# Altium schematic symbol library Schlib1.SchLib: 3 symbols
Pins are listed as number, name and electrical type; pins without a type are passive.

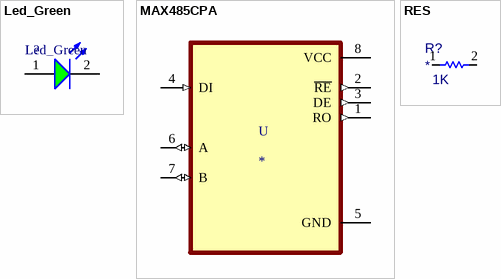
[diagram p0: symbols Led_Green to RES]

## Led_Green
designator L?
NexarPartId: 29717814; Forward Voltage: 2.1V; Viewing Angle: 40°; Lens Size: 5mm; Luminous Intensity: 140mcd; Color: Green; Max Reverse Voltage (DC): 5V; Wavelength: 572nm; Forward Current: 100mA; Peak Wavelength: 573nm; Test Current: 20mA; Lens Style: Circular, Diffused, Round; REACH SVHC: Unknown; Height: 8.6mm; Mount: Through Hole; Width: 5mm; Length: 5mm; Min Operating Temperature: -40°C; RoHS: Compliant; Dominant Wavelength: 572nm; Case/Package: Radial; Max Operating Temperature: 85°C; Packaging: Bulk
footprint Led_Green (THT Mono-color Round Color LED, 2-leads)
pins: 1 A, 2 K

## MAX485CPA
designator U
1/1 Transceiver Half RS422, RS485 8-PDIP; MP: MAX485CPA; MF: Maxim Integrated; Availability: Unavailable; SnapEDA_Link: https://www.snapeda.com/parts/MAX485CPA/Maxim%20Integrated/view-part/2218906/?ref=snap; Package: DIP-8 Maxim Integrated; Value: *; Price: None
footprint DIP794W47P254L991H457Q8
pins: 1 RO (out), 2 ~{RE} (out), 3 DE (out), 4 DI (in), 5 GND (power), 6 A (io), 7 B (io), 8 VCC (power)

## RES
designator R?  value 1K
Basicos; Package: *; LCSC Part #: *; Mouser Part #: *; ComponentLink1Description: LCSC Part Link; ComponentLink1URL: *; ComponentLink2Description: Mouser Part Link; ComponentLink2URL: *; ComponentLink3Description: Datasheet Link; ComponentLink3URL: *
footprint AXIAL-0.2 RES-1/8W (AXIAL)
footprint AXIAL-0.3 RES-1/4W (AXIAL)
footprint AXIAL-0.4 RES-1/2W (AXIAL)
footprint AXIAL-0.5 RES-1W (AXIAL)
pins: 1, 2